# Altium schematic symbol library Schlib1.SchLib: 13 symbols
Pins are listed as number, name and electrical type; pins without a type are passive.

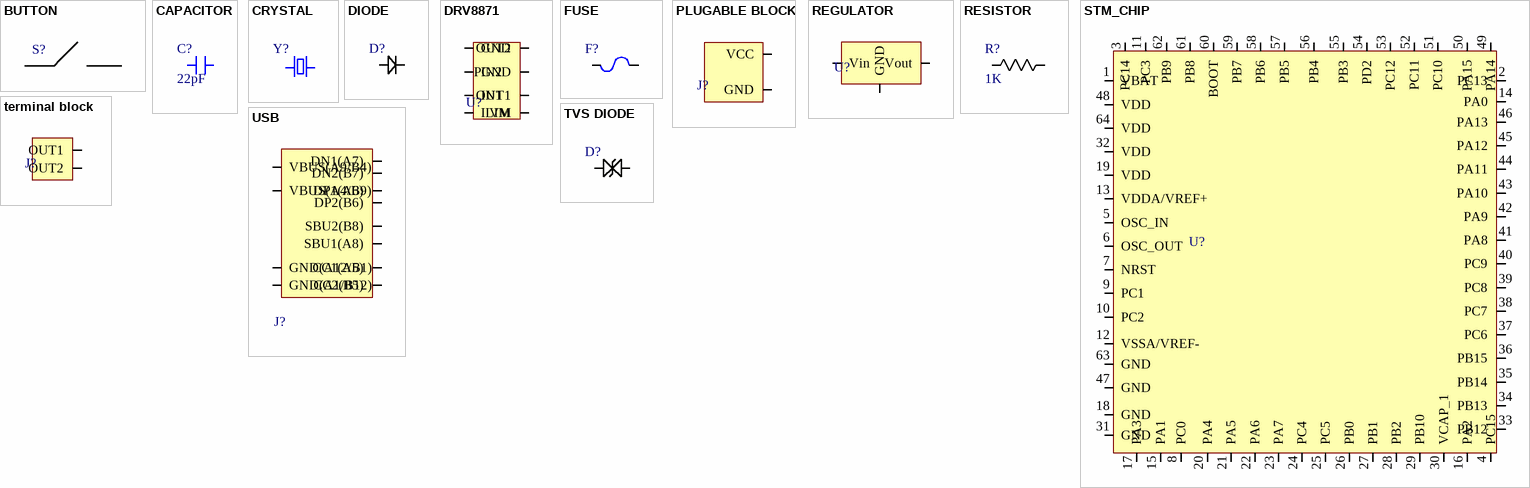
[diagram p0: symbols BUTTON to USB]

## BUTTON
designator S?  (value not drawn)
footprint BUTTON
pins: 1 28, 2 27

## CAPACITOR
designator C?, comment 22pF
50V 22pF C0G ±5% 0402 Multilayer Ceramic Capacitors MLCC - SMD/SMT ROHS; Manufacturer: Murata Electronics; Mfr. Part: GRM1555C1H220JA01D; SUPPLIER: LCSC; LCSC Part: C76960
footprint CAPACITOR
pins: 1 16, 2 17

## CRYSTAL
designator Y?  (value not drawn)
16MHz 20pF ±30ppm ±50ppm HC-49S-SMD Crystals ROHS; Manufacturer: ECS; Mfr. Part: ECS-160-20-5PVX; SUPPLIER: LCSC; LCSC Part: C6611805
footprint CRYSTAL
pins: 1 25, 2 26

## DIODE
designator D?  (value not drawn)
1A Independent Type 1.3V@1A 400V SMA(DO-214AC) Diodes - General Purpose ROHS; Manufacturer: SMC; Mfr. Part: RS1G; SUPPLIER: LCSC; LCSC Part: C260336
footprint DIODE (Molded Diode, 2-Leads, Body 4.37x2.62mm, IPC Medium Density)
pins: 1 18, 2 19

## DRV8871
designator U?  (value not drawn)
3.6A Brushed DC Motor 6.8V~45V PWM SOIC-8-EP Motor Driver ICs ROHS; Manufacturer: Texas Instruments; Mfr. Part: DRV8871DDARQ1; SUPPLIER: LCSC; LCSC Part: C701805
footprint SOIC127P600X170-8N (SOIC, 8-Leads, Body 4.90x3.90mm, Pitch 1.27mm, IPC Medium Density)
pins: 1 GND, 2 IN2, 3 IN1, 4 ILIM, 5 VM, 6 OUT1, 7 PGND, 8 OUT2

## FUSE
designator F?  (value not drawn)
1A 125V SMD,6.1x2.5mm Disposable fuses ROHS; Manufacturer: Bel Fuse; Mfr. Part: 0679L1000-01; SUPPLIER: LCSC; LCSC Part: C3159772
footprint FUSE
pins: 14, 15

## PLUGABLE BLOCK
designator J?  (value not drawn)
P=2.54mm Pluggable System Terminal Block ROHS; Manufacturer: Cixi Kefa Elec; Mfr. Part: KF2024-2.54-2P; SUPLLIER: LCSC; LCSC Part: C42371572
footprint PLUGABLE
pins: 1 VCC, 2 GND

## REGULATOR
designator U?  (value not drawn)
SIP,17.5x11.5mm Isolated Power Modules ROHS; Manufacturer: Recom Power; Mfr. Part: R-78B3.3-1.0L; LCSC Part: C7270711; SUPPLIER: LCSC
footprint REGULATOR
pins: 1 Vin, 2 Vout, 3 GND

## RESISTOR
designator R?, comment 1K
Ceramic resistor ±1% 1206 Chip Resistor - Surface Mount ROHS; Manufacturer: Milliohm; Mfr. Part: HoCS1206-470mR-1%-TCR200; SUPPLIER: LCSC; LCSC Part: C2912641
footprint Resistor
pins: 1 20, 2 21

## STM_CHIP
designator U?  (value not drawn)
ARM-M4 84MHz LQFP-64(10x10) Microcontrollers (MCU/MPU/SOC) ROHS; Manufacturer: STMicroelectronics; Mfr. Part: STM32F401RCT6; LCSC Part: C74524; SUPPLIER: LCSC
footprint TSQFP50P1270X1270X160-64N (TSQFP, 64-Leads, Body 10.00x10.00mm, Pitch 0.50mm, IPC Medium Density)
pins: 1 VBAT, 2 PC13, 3 PC14, 4 PC15, 5 OSC_IN, 6 OSC_OUT, 7 NRST, 8 PC0, 9 PC1, 10 PC2, 11 PC3, 12 VSSA/VREF-, 13 VDDA/VREF+, 14 PA0, 15 PA1, 16 PA2, 17 PA3, 18 GND, 19 VDD, 20 PA4, 21 PA5, 22 PA6, 23 PA7, 24 PC4, 25 PC5, 26 PB0, 27 PB1, 28 PB2, 29 PB10, 30 VCAP_1, 31 GND, 32 VDD, 33 PB12, 34 PB13, 35 PB14, 36 PB15, 37 PC6, 38 PC7, 39 PC8, 40 PC9, 41 PA8, 42 PA9, 43 PA10, 44 PA11, 45 PA12, 46 PA13, 47 GND, 48 VDD, 49 PA14, 50 PA15, 51 PC10, 52 PC11, 53 PC12, 54 PD2, 55 PB3, 56 PB4, 57 PB5, 58 PB6, 59 PB7, 60 BOOT, 61 PB8, 62 PB9, 63 GND, 64 VDD

## terminal block
designator J?  (value not drawn)
Plugin Screw Terminal Blocks ROHS; Manufacturer: TE Connectivity 282834-2; Mfr. Part: 282834-2; SUPPLIER: LCSC; LCSC Part: C592983
footprint TERMINAL BLOCK
pins: 1 OUT1, 2 OUT2

## TVS DIODE
designator D?  (value not drawn)
45V 0603 ESD and Surge Protection (TVS/ESD) ROHS; Manufacturer: Littelfuse; Mfr. Part: PESD0603-240; SUPPLIER: LCSC; LCSC Part: C2929617
footprint TVS DIODE (Chip Diode, 2-Leads, Body 1.60x0.83mm, IPC Medium Density)
pins: 1 12, 2 13

## USB
designator J?  (value not drawn)
5A 1 16P Mother Type-C SMD USB Connectors ROHS; Manufacturer: Korean Hroparts; Mfr. Part: TYPE-C-31-M-12; SUPPLIER: LCSC; LCSC Part: C165948
footprint DIP32
pins: 1 GND(A1/B12), 2 VBUS(A4/B9), 3 SBU2(B8), 4 CC1(A5), 5 DN2(B7) (io), 6 DP1(A6) (io), 7 DN1(A7) (io), 8 DP2(B6) (io), 9 SBU1(A8), 10 CC2(B5), 11 VBUS(A9/B4), 12 GND(A12/B1)